# Altium integrated library RP73D1J13RBTDG.IntLib: 1 symbol
Pins are listed as number, name and electrical type; pins without a type are passive.

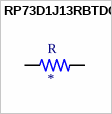
[diagram p0: symbol RP73D1J13RBTDG]

## RP73D1J13RBTDG
designator R
Res, Thin Film, 13r, 0.1%, 0.1w, 0603; MP: RP73D1J13RBTDG; MF: TE Connectivity; Availability: Unavailable; SnapEDA_Link: https://www.snapeda.com/parts/RP73D1J13RBTDG/TE%20Connectivity/view-part/970906/?ref=snap; Package: 0603 TE Connectivity / AMP; Price: None; TE_purchase_URL: https://www.te.com/usa-en/product-RP73D1J13RBTDG.html?te_bu=Cor&te_type=disp&te_campaign=seda_glo_cor-seda-global-disp-prtnr-fy19-seda-model-bom-cta_sma-317_1&elqCampaignId=32493; Value: *
footprint RESC1608X50N
pins: 1, 2